# EAGLE library part IV-12_VFD_TUBE (library Microchip-Tim)
IV-18 Russian VFD Tube
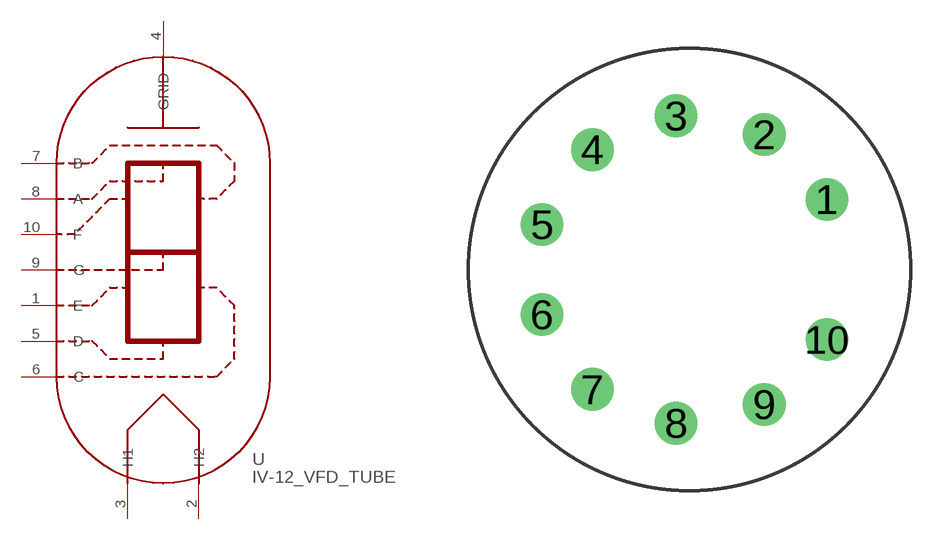
[diagram p2: symbol with the pads of B10A_TUBE; footprint B10A_TUBE]

Designator prefix -

## IV-12_VFD_TUBE  [B10A_TUBE]
1  E
2  H2
3  H1
4  GRID
5  D
6  C
7  B
8  A
9  G
10  F

## Footprint B10A_TUBE (pad centres in mm)
drill 1.1 round: 1 5.296,2.697; 2 2.88,5.199; 3 -0.518,5.921; 4 -3.739,4.62; 5 -5.684,1.737; 6 -5.684,-1.737; 7 -3.739,-4.62; 8 -0.518,-5.921; 9 2.88,-5.199; 10 5.296,-2.697